# EAGLE library part 181-062-213R561 (library D-Sub Connectors)
CONN DSUB HD RCPT 62POS R/A SLDR Manufacturer's datasheet <https://www.norcomp.net/rohspdfs/Connectors/18Y/181/181-YYY-213RYY1.pdf>
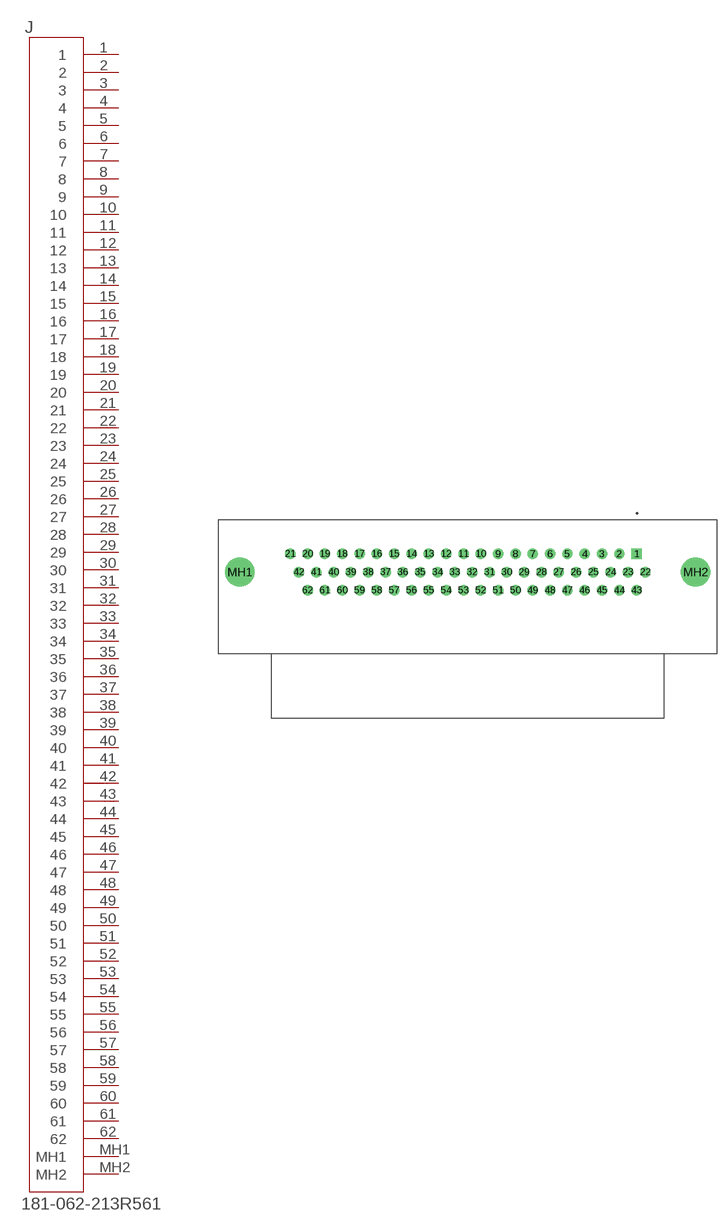
[diagram p0: symbol with the pads of 181-062-213R561; footprint 181-062-213R561]

Designator prefix J

## 181-062-213R561 (CREATED_BY: PCBLayout.com; DIGI_KEY_PART_NUMBER: 181-262RFE-ND; MANUFACTURER: NorComp Inc.; MPN: 181-062-213R561)  [181-062-213R561]
1  1  pas
2  2  pas
3  3  pas
4  4  pas
5  5  pas
6  6  pas
7  7  pas
8  8  pas
9  9  pas
10  10  pas
11  11  pas
12  12  pas
13  13  pas
14  14  pas
15  15  pas
16  16  pas
17  17  pas
18  18  pas
19  19  pas
20  20  pas
21  21  pas
22  22  pas
23  23  pas
24  24  pas
25  25  pas
26  26  pas
27  27  pas
28  28  pas
29  29  pas
30  30  pas
31  31  pas
32  32  pas
33  33  pas
34  34  pas
35  35  pas
36  36  pas
37  37  pas
38  38  pas
39  39  pas
40  40  pas
41  41  pas
42  42  pas
43  43  pas
44  44  pas
45  45  pas
46  46  pas
47  47  pas
48  48  pas
49  49  pas
50  50  pas
51  51  pas
52  52  pas
53  53  pas
54  54  pas
55  55  pas
56  56  pas
57  57  pas
58  58  pas
59  59  pas
60  60  pas
61  61  pas
62  62  pas
MH1  MH1  pas
MH2  MH2  pas

## Footprint 181-062-213R561 (pad centres in mm)
drill 0.94 square: 1 23.546,2.54
drill 0.94: 2 21.133,2.54; 3 18.72,2.54; 4 16.307,2.54; 5 13.894,2.54; 6 11.481,2.54; 7 9.068,2.54; 8 6.655,2.54; 9 4.242,2.54; 10 1.829,2.54; 11 -0.584,2.54; 12 -2.997,2.54; 13 -5.41,2.54; 14 -7.823,2.54; 15 -10.236,2.54; 16 -12.649,2.54; 17 -15.062,2.54; 18 -17.475,2.54; 19 -19.888,2.54; 20 -22.301,2.54; 21 -24.714,2.54; 22 24.752,0; 23 22.339,0; 24 19.926,0; 25 17.513,0; 26 15.1,0; 27 12.687,0; 28 10.274,0; 29 7.861,0; 30 5.448,0; 31 3.035,0; 32 0.622,0; 33 -1.791,0; 34 -4.204,0; 35 -6.617,0; 36 -9.03,0; 37 -11.443,0; 38 -13.856,0; 39 -16.269,0; 40 -18.682,0; 41 -21.095,0; 42 -23.508,0; 43 23.546,-2.54; 44 21.133,-2.54; 45 18.72,-2.54; 46 16.307,-2.54; 47 13.894,-2.54; 48 11.481,-2.54; 49 9.068,-2.54; 50 6.655,-2.54; 51 4.242,-2.54; 52 1.829,-2.54; 53 -0.584,-2.54; 54 -2.997,-2.54; 55 -5.41,-2.54; 56 -7.823,-2.54; 57 -10.236,-2.54; 58 -12.649,-2.54; 59 -15.062,-2.54; 60 -17.475,-2.54; 61 -19.888,-2.54; 62 -22.301,-2.54
drill 3.048: MH1 -31.75,0; MH2 31.75,0